# Altium footprint library HDR2X13_RA_CENTRONICS.PcbLib: 1 footprints
Each footprint in its own frame and in the unit in brackets; x right, y up, seen from the top. Pads: shape width x height; smd on the part's side, far side on the other; paste and mask are expansions set on the pad; w line width, h text height; cw(c..) or ccw(c..) is an arc to the next point about the centre after c.
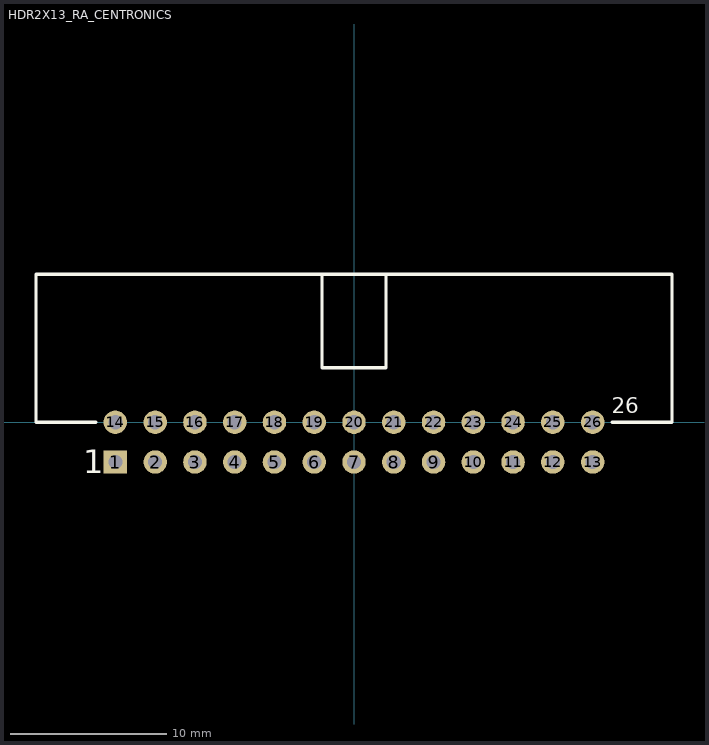
[diagram p0: the footprint, top view; thin cyan lines are the x and y axes]

## HDR2X13_RA_CENTRONICS [mm] "Connector; IDC, Low Profile Male Header, Thru-Hole; 26 Position; Right Angle; Pitch 2.54 mm; Body 40.64 x 8.9 x 9.2 mm (LxWxH)"
height 9.2
pads (26):
  rect 1.5x1.5 hole 0.9: 1(-15.24,-2.54)
  round 1.5 hole 0.9: 2(-12.7,-2.54) 3(-10.16,-2.54) 4(-7.62,-2.54) 5(-5.08,-2.54) 6(-2.54,-2.54) 7(0,-2.54) 8(2.54,-2.54) 9(5.08,-2.54) 10(7.62,-2.54) 11(10.16,-2.54) 12(12.7,-2.54) 13(15.24,-2.54) 14(-15.24,0) 15(-12.7,0) 16(-10.16,0) 17(-7.62,0) 18(-5.08,0) 19(-2.54,0) 20(0,0) 21(2.54,0) 22(5.08,0) 23(7.62,0) 24(10.16,0) 25(12.7,0) 26(15.24,0)
Top Overlay:
  lines w0.2: -16.465,0 -20.32,0 -20.32,9.45 20.32,9.45 20.32,0 16.465,0 ; -2.05,9.45 -2.05,3.48 2.05,3.48 2.05,9.45
  text "1" at -17.275,-3.25 h1.5
  text "26" at 16.47,0.585 h1